# EAGLE library part XC2C32A-6CP56C (library launchpad)
XC2C32A-6CP56C
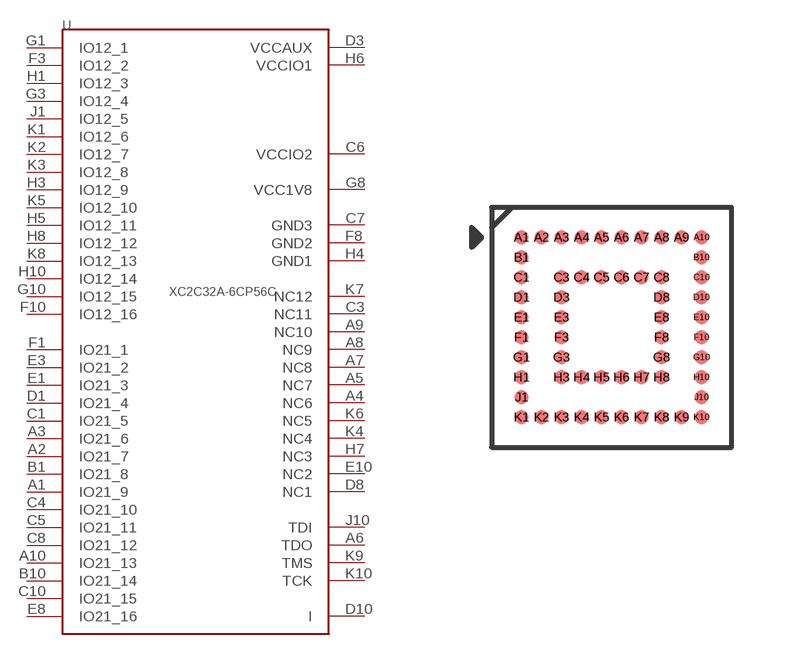
[diagram p2: symbol with the pads of CP56; footprint CP56]

Designator prefix U

## XC2C32A-6CP56C  [CP56]
A1  IO21_9
A2  IO21_7
A3  IO21_6
A4  NC6
A5  NC7
A6  TDO
A7  NC8
A8  NC9
A9  NC10
A10  IO21_13
B1  IO21_8
B10  IO21_14
C1  IO21_5
C3  NC11
C4  IO21_10
C5  IO21_11
C6  VCCIO2
C7  GND3
C8  IO21_12
C10  IO21_15
D1  IO21_4
D3  VCCAUX
D8  NC1
D10  I
E1  IO21_3
E3  IO21_2
E8  IO21_16
E10  NC2
F1  IO21_1
F3  IO12_2
F8  GND2
F10  IO12_16
G1  IO12_1
G3  IO12_4
G8  VCC1V8
G10  IO12_15
H1  IO12_3
H3  IO12_9
H4  GND1
H5  IO12_11
H6  VCCIO1
H7  NC3
H8  IO12_12
H10  IO12_14
J1  IO12_5
J10  TDI
K1  IO12_6
K2  IO12_7
K3  IO12_8
K4  NC4
K5  IO12_10
K6  NC5
K7  NC12
K8  IO12_13
K9  TMS
K10  TCK

## Footprint CP56 (pad centres in mm)
smd 0.35 x 0.35: A1 0,0; A2 0.5,0; A3 1,0; A4 1.5,0; A5 2,0; A6 2.5,0; A7 3,0; A8 3.5,0; A9 4,0; A10 4.5,0; B1 0,-0.5; B10 4.5,-0.5; C1 0,-1; C3 1,-1; C4 1.5,-1; C5 2,-1; C6 2.5,-1; C7 3,-1; C8 3.5,-1; C10 4.5,-1; D1 0,-1.5; D3 1,-1.5; D8 3.5,-1.5; D10 4.5,-1.5; E1 0,-2; E3 1,-2; E8 3.5,-2; E10 4.5,-2; F1 0,-2.5; F3 1,-2.5; F8 3.5,-2.5; F10 4.5,-2.5; G1 0,-3; G3 1,-3; G8 3.5,-3; G10 4.5,-3; H1 0,-3.5; H3 1,-3.5; H4 1.5,-3.5; H5 2,-3.5; H6 2.5,-3.5; H7 3,-3.5; H8 3.5,-3.5; H10 4.5,-3.5; J1 0,-4; J10 4.5,-4; K1 0,-4.5; K2 0.5,-4.5; K3 1,-4.5; K4 1.5,-4.5; K5 2,-4.5; K6 2.5,-4.5; K7 3,-4.5; K8 3.5,-4.5; K9 4,-4.5; K10 4.5,-4.5